# EAGLE library part 615006144121 (library WR-MJ)
WR-MJ Cat 3 Modular Jacks – THT Characteristics Shieldingless and Shielded with EMI-Spring option Optional LEDs in various sequences Vertical and Horizontal orientation Stacked and assembled configurations Tray Packaging Properties PoE++ Compatible up to 100W (IEEE 802.3bt) UL and cULus-Certified UL94-V0 insulator material Ethernet Category 3 – Category 5 under conditions Applications Networks Internet of Things mart Buildings <https://www.we-online.com/components/media/o863419v209%20multi-WR-MJTH-615002138421.jpg> Details see: www.we-online.com/en/components/products/WR_MJ_MODULAR_JACKS_THT <www.we-online.com/catalog/WR_MJ_MODULAR_JACKS_THT/?utm_source=eagle_model&utm_medium=description_link&utm_campaign=eisos_eagle> Updated by Yingchun Shan 2020-01-06 2020(C) Würth Elektronik
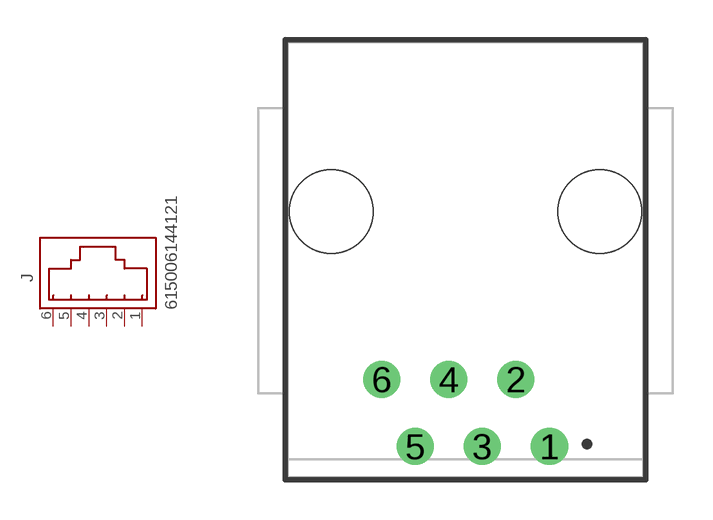
[diagram p0: symbol with the pads of 615006144121; footprint 615006144121]

Designator prefix J

## 615006144121 (DATASHEET-URL: https://www.we-online.com/redexpert/spec/615006144121?ae; EMI: No; LED: /; MOUNT: THT; PART-NUMBER: 615006144121; SIZE: Vertical; VALUE: 615006144121; XPXC: 6P6C)  [615006144121]
1  1  pas
2  2  pas
3  3  pas
4  4  pas
5  5  pas
6  6  pas

## Footprint 615006144121 (pad centres in mm)
WR-MJ Vertical Plastic 6PxC Modular Jack With Ear,6 pins
drill 0.9: 1 3.175,-7.07; 2 1.905,-4.53; 3 0.635,-7.07; 4 -0.635,-4.53; 5 -1.905,-7.07; 6 -3.175,-4.53
hole 3.17 at 5.08,1.82
hole 3.17 at -5.08,1.82